# EAGLE library part M16C/22(100PIN) (library renesas_mcu)
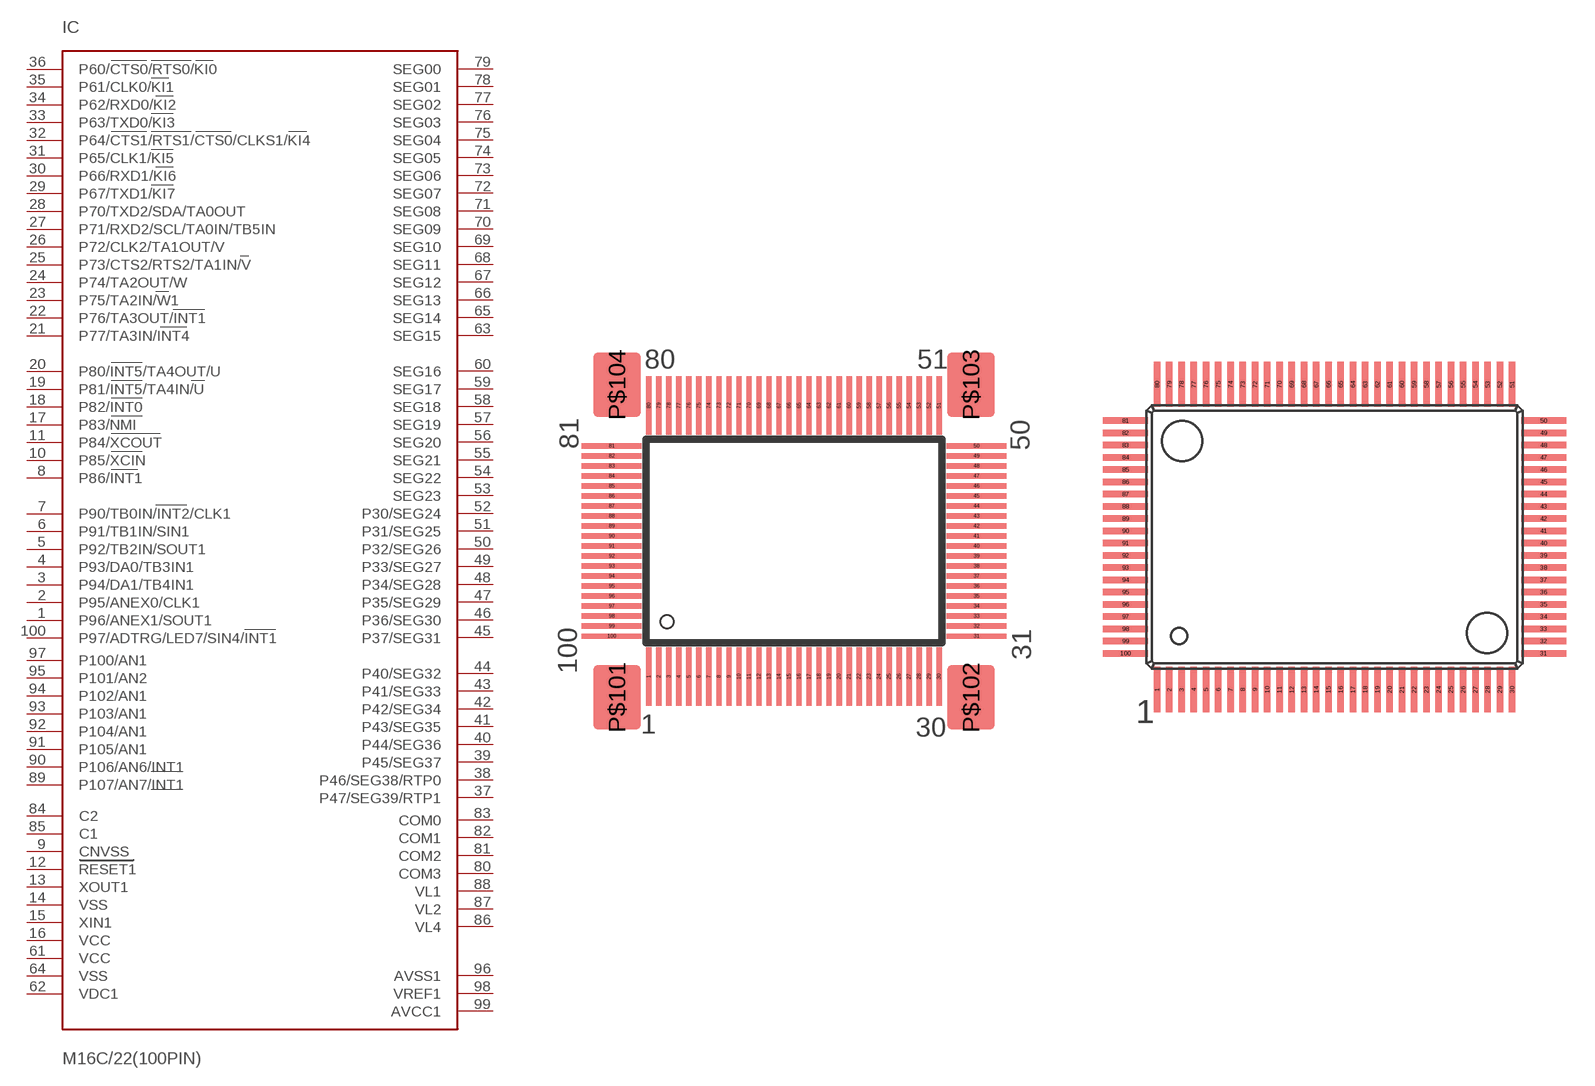
[diagram p4: symbol with the pads of 100P6S-A(SOCKET); footprints 100P6S-A(SOCKET), 100P6S-A]

Designator prefix IC

## M16C/22(100PIN)2  [100P6S-A(SOCKET)]
1  P96/ANEX1/SOUT1
2  P95/ANEX0/CLK1
3  P94/DA1/TB4IN1
4  P93/DA0/TB3IN1
5  P92/TB2IN/SOUT1
6  P91/TB1IN/SIN1
7  P90/TB0IN/INT2/CLK1
8  P86/INT1
9  CNVSS  in
10  P85/XCIN
11  P84/XCOUT
12  RESET1  in
13  XOUT1  out
14  VSS  pwr
15  XIN1  in
16  VCC  pwr
17  P83/NMI  in
18  P82/INT0
19  P81/INT5/TA4IN/U
20  P80/INT5/TA4OUT/U
21  P77/TA3IN/INT4
22  P76/TA3OUT/INT1
23  P75/TA2IN/W1
24  P74/TA2OUT/W
25  P73/CTS2/RTS2/TA1IN/V
26  P72/CLK2/TA1OUT/V
27  P71/RXD2/SCL/TA0IN/TB5IN
28  P70/TXD2/SDA/TA0OUT
29  P67/TXD1/KI7
30  P66/RXD1/KI6
31  P65/CLK1/KI5
32  P64/CTS1/RTS1/CTS0/CLKS1/KI4
33  P63/TXD0/KI3
34  P62/RXD0/KI2
35  P61/CLK0/KI1
36  P60/CTS0/RTS0/KI0
37  P47/SEG39/RTP1
38  P46/SEG38/RTP0
39  P45/SEG37
40  P44/SEG36
41  P43/SEG35
42  P42/SEG34
43  P41/SEG33
44  P40/SEG32
45  P37/SEG31
46  P36/SEG30
47  P35/SEG29
48  P34/SEG28
49  P33/SEG27
50  P32/SEG26
51  P31/SEG25
52  P30/SEG24
53  SEG23  out
54  SEG22  out
55  SEG21  out
56  SEG20  out
57  SEG19  out
58  SEG18  out
59  SEG17  out
60  SEG16  out
61  VCC  pwr
62  VDC1  in
63  SEG15  out
64  VSS  pwr
65  SEG14  out
66  SEG13  out
67  SEG12  out
68  SEG11  out
69  SEG10  out
70  SEG09  out
71  SEG08  out
72  SEG07  out
73  SEG06  out
74  SEG05  out
75  SEG04  out
76  SEG03  out
77  SEG02  out
78  SEG01  out
79  SEG00  out
80  COM3  out
81  COM2  out
82  COM1  out
83  COM0  out
84  C2
85  C1
86  VL4
87  VL2
88  VL1
89  P107/AN7/INT1
90  P106/AN6/INT1
91  P105/AN1
92  P104/AN1
93  P103/AN1
94  P102/AN1
95  P101/AN2
96  AVSS1  in
97  P100/AN1
98  VREF1  in
99  AVCC1  in
100  P97/ADTRG/LED7/SIN4/INT1

## M16C/22(100PIN)1  [100P6S-A]
Pads as for 100P6S-A(SOCKET)

## Footprint 100P6S-A(SOCKET) (pad centres in mm)
smd 0.35 x 3.8: 1 -9.425,-8.8; 2 -8.775,-8.8; 3 -8.125,-8.8; 4 -7.475,-8.8; 5 -6.825,-8.8; 6 -6.175,-8.8; 7 -5.525,-8.8; 8 -4.875,-8.8; 9 -4.225,-8.8; 10 -3.575,-8.8; 11 -2.925,-8.8; 12 -2.275,-8.8; 13 -1.625,-8.8; 14 -0.975,-8.8; 15 -0.325,-8.8; 16 0.325,-8.8; 17 0.975,-8.8; 18 1.625,-8.8; 19 2.275,-8.8; 20 2.925,-8.8; 21 3.575,-8.8; 22 4.225,-8.8; 23 4.875,-8.8; 24 5.525,-8.8; 25 6.175,-8.8; 26 6.825,-8.8; 27 7.475,-8.8; 28 8.125,-8.8; 29 8.775,-8.8; 30 9.425,-8.8; 51 9.425,8.8; 52 8.775,8.8; 53 8.125,8.8; 54 7.475,8.8; 55 6.825,8.8; 56 6.175,8.8; 57 5.525,8.8; 58 4.875,8.8; 59 4.225,8.8; 60 3.575,8.8; 61 2.925,8.8; 62 2.275,8.8; 63 1.625,8.8; 64 0.975,8.8; 65 0.325,8.8; 66 -0.325,8.8; 67 -0.975,8.8; 68 -1.625,8.8; 69 -2.275,8.8; 70 -2.925,8.8; 71 -3.575,8.8; 72 -4.225,8.8; 73 -4.875,8.8; 74 -5.525,8.8; 75 -6.175,8.8; 76 -6.825,8.8; 77 -7.475,8.8; 78 -8.125,8.8; 79 -8.775,8.8; 80 -9.425,8.8
smd 3.9 x 0.35: 31 11.85,-6.175; 32 11.85,-5.525; 33 11.85,-4.875; 34 11.85,-4.225; 35 11.85,-3.575; 36 11.85,-2.925; 37 11.85,-2.275; 38 11.85,-1.625; 39 11.85,-0.975; 40 11.85,-0.325; 41 11.85,0.325; 42 11.85,0.975; 43 11.85,1.625; 44 11.85,2.275; 45 11.85,2.925; 46 11.85,3.575; 47 11.85,4.225; 48 11.85,4.875; 49 11.85,5.525; 50 11.85,6.175; 81 -11.85,6.175; 82 -11.85,5.525; 83 -11.85,4.875; 84 -11.85,4.225; 85 -11.85,3.575; 86 -11.85,2.925; 87 -11.85,2.275; 88 -11.85,1.625; 89 -11.85,0.975; 90 -11.85,0.325; 91 -11.85,-0.325; 92 -11.85,-0.975; 93 -11.85,-1.625; 94 -11.85,-2.275; 95 -11.85,-2.925; 96 -11.85,-3.575; 97 -11.85,-4.225; 98 -11.85,-4.875; 99 -11.85,-5.525; 100 -11.85,-6.175
smd 3.1 x 4.2: P$101 -11.5,-10.15; P$102 11.5,-10.15; P$103 11.5,10.15; P$104 -11.5,10.15

## Footprint 100P6S-A (pad centres in mm)
smd 0.35 x 2.4: 1 -9.425,-8.1; 2 -8.775,-8.1; 3 -8.125,-8.1; 4 -7.475,-8.1; 5 -6.825,-8.1; 6 -6.175,-8.1; 7 -5.525,-8.1; 8 -4.875,-8.1; 9 -4.225,-8.1; 10 -3.575,-8.1; 11 -2.925,-8.1; 12 -2.275,-8.1; 13 -1.625,-8.1; 14 -0.975,-8.1; 15 -0.325,-8.1; 16 0.325,-8.1; 17 0.975,-8.1; 18 1.625,-8.1; 19 2.275,-8.1; 20 2.925,-8.1; 21 3.575,-8.1; 22 4.225,-8.1; 23 4.875,-8.1; 24 5.525,-8.1; 25 6.175,-8.1; 26 6.825,-8.1; 27 7.475,-8.1; 28 8.125,-8.1; 29 8.775,-8.1; 30 9.425,-8.1; 51 9.425,8.1; 52 8.775,8.1; 53 8.125,8.1; 54 7.475,8.1; 55 6.825,8.1; 56 6.175,8.1; 57 5.525,8.1; 58 4.875,8.1; 59 4.225,8.1; 60 3.575,8.1; 61 2.925,8.1; 62 2.275,8.1; 63 1.625,8.1; 64 0.975,8.1; 65 0.325,8.1; 66 -0.325,8.1; 67 -0.975,8.1; 68 -1.625,8.1; 69 -2.275,8.1; 70 -2.925,8.1; 71 -3.575,8.1; 72 -4.225,8.1; 73 -4.875,8.1; 74 -5.525,8.1; 75 -6.175,8.1; 76 -6.825,8.1; 77 -7.475,8.1; 78 -8.125,8.1; 79 -8.775,8.1; 80 -9.425,8.1
smd 2.4 x 0.35: 31 11.1,-6.175; 32 11.1,-5.525; 33 11.1,-4.875; 34 11.1,-4.225; 35 11.1,-3.575; 36 11.1,-2.925; 37 11.1,-2.275; 38 11.1,-1.625; 39 11.1,-0.975; 40 11.1,-0.325; 41 11.1,0.325; 42 11.1,0.975; 43 11.1,1.625; 44 11.1,2.275; 45 11.1,2.925; 46 11.1,3.575; 47 11.1,4.225; 48 11.1,4.875; 49 11.1,5.525; 50 11.1,6.175; 81 -11.1,6.175; 82 -11.1,5.525; 83 -11.1,4.875; 84 -11.1,4.225; 85 -11.1,3.575; 86 -11.1,2.925; 87 -11.1,2.275; 88 -11.1,1.625; 89 -11.1,0.975; 90 -11.1,0.325; 91 -11.1,-0.325; 92 -11.1,-0.975; 93 -11.1,-1.625; 94 -11.1,-2.275; 95 -11.1,-2.925; 96 -11.1,-3.575; 97 -11.1,-4.225; 98 -11.1,-4.875; 99 -11.1,-5.525; 100 -11.1,-6.175